# Altium schematic symbol library Schlib_Spectrum_Analyzer.SchLib: 19 symbols
Pins are listed as number, name and electrical type; pins without a type are passive.

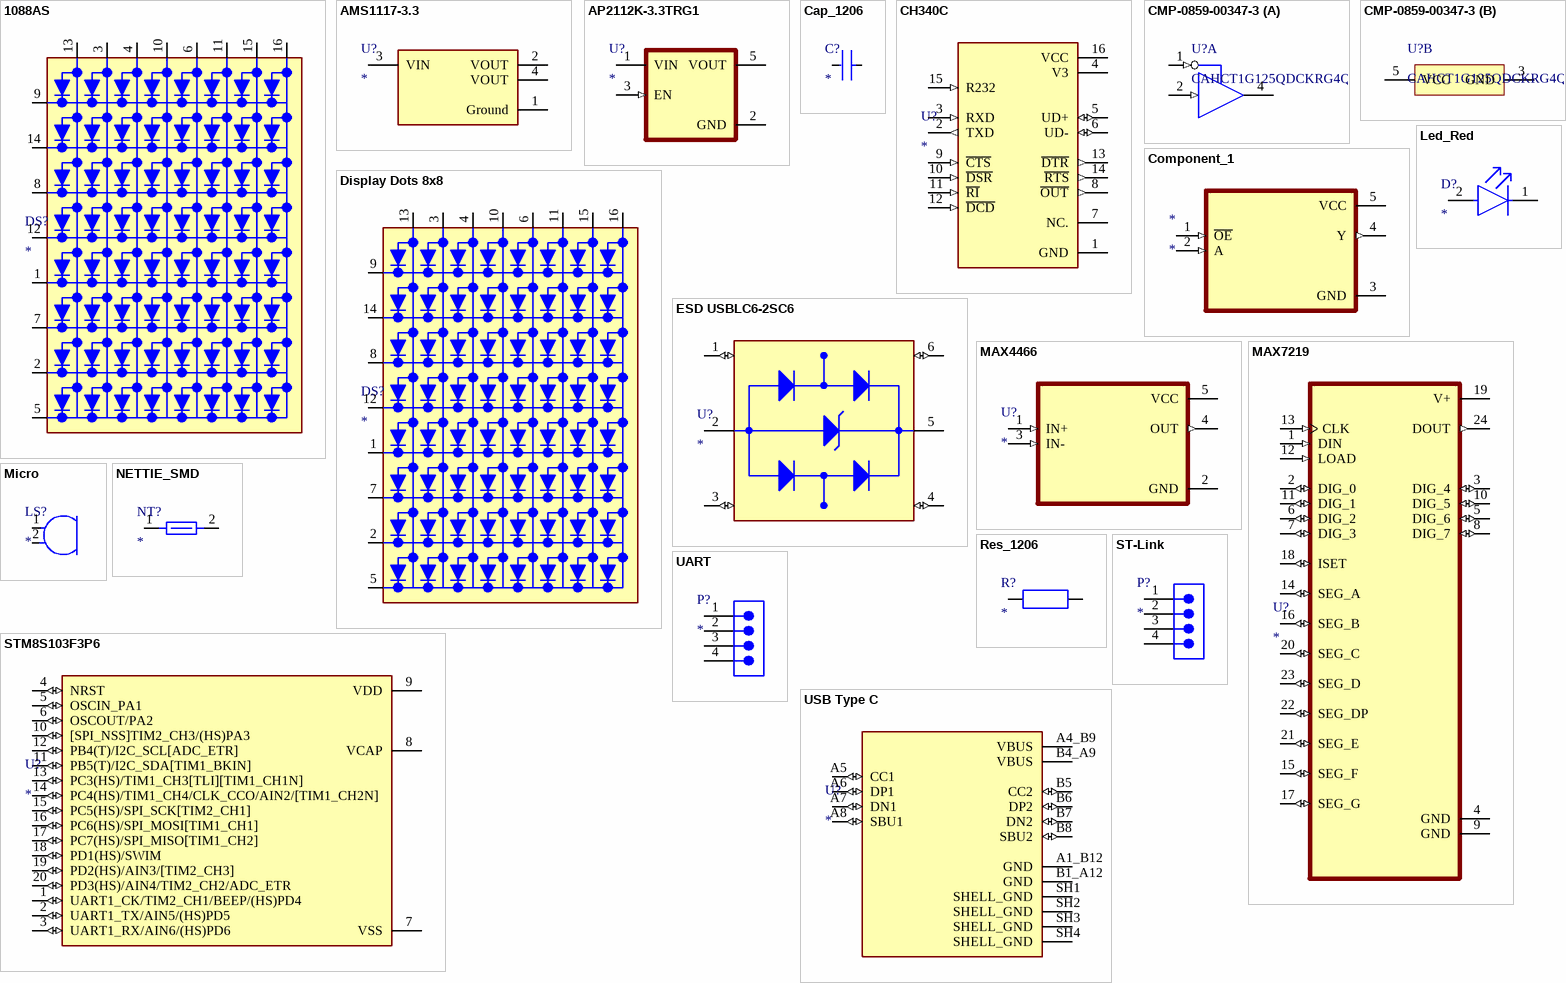
[diagram p0: symbols 1088AS to USB Type C]

## 1088AS
designator DS?
footprint LED_MATRIX_8x8_1088AS
pins: 1 CATHODE_ROW_5, 2 CATHODE_ROW_7, 3 ANODE_COLUMN_2, 4 ANODE_COLUMN_3, 5 CATHODE_ROW_8, 6 ANODE_COLUMN_5, 7 CATHODE_ROW_6, 8 CATHODE_ROW_3, 9 CATHODE_ROW_1, 10 ANODE_COLUMN_4, 11 ANODE_COLUMN_6, 12 CATHODE_ROW_4, 13 ANODE_COLUMN_1, 14 CATHODE_ROW_2, 15 ANODE_COLUMN_7, 16 ANODE_COLUMN_8

## AMS1117-3.3
designator U?
footprint AMS1117-3.3
pins: 1 Ground (power), 2 VOUT, 3 VIN (power), 4 VOUT

## AP2112K-3.3TRG1
designator U?
footprint AP2112K-3.3TRG1
pins: 1 VIN (power), 2 GND (power), 3 EN (in), 5 VOUT (power)

## Cap_1206
designator C?
Value: *
footprint Cap_1206
pins: 1, 2

## CH340C
designator U?
footprint CH340C
pins: 1 GND (power), 2 TXD (out), 3 RXD (in), 4 V3 (power), 5 UD+ (io), 6 UD- (io), 7 NC., 8 ~{OUT} (out), 9 ~{CTS} (in), 10 ~{DSR} (in), 11 ~{RI} (in), 12 ~{DCD} (in), 13 ~{DTR} (out), 14 ~{RTS} (out), 15 R232 (in), 16 VCC (power)

## CMP-0859-00347-3
designator U?, comment CAHCT1G125QDCKRG4Q
Generic Part Number: SN74AHCT1G125-Q1; Manufacturer: Texas Instruments; F @ Nom Voltage(Max)(Mhz): 75; ICC @ Nom Voltage(Max)(mA): 0.01; Output Drive (IOL/IOH)(Max)(mA): 8/-8; Rating: Automotive; Logic: True; Voltage(Nom)(V): 5; tpd @ Nom Voltage(Max)(ns): 6; VCC(Min)(V): 3; Technology Family: AHCT; 3-State Output: Yes; Bits(#): 1; Sub-Family: Non-Inverting Buffer/Driver; Input Type: CMOS; Schmitt Trigger: No; VCC(Max)(V): 5.5; PackageReference: DCK0005A; DatasheetVersion: SCLS504B; Operating Temperature Range(C): -40 to 125; Output Type: CMOS
footprint DCK0005A_N (SOT23, 5-Leads, Body 2.15x1.4mm, Pitch 0.65mm, IPC Medium Density)
footprint DCK0005A_L (SOT23, 5-Leads, Body 2.15x1.4mm, Pitch 0.65mm, IPC High Density)
footprint DCK0005A_M (SOT23, 5-Leads, Body 2.15x1.4mm, Pitch 0.65mm, IPC Low Density)
footprint DCK0005A_M (SOT23, 5-Leads, Body 2.15x1.4mm, Pitch 0.65mm, IPC Low Density)
footprint DCK0005A_M (SOT23, 5-Leads, Body 2.15x1.4mm, Pitch 0.65mm, IPC Low Density)
part A pins: 1 ~{OE} (in), 2 A (in), 4 Y (hiz)
part B pins: 3 GND (power), 5 VCC (power)

## Component_1
designator *
pins: 1 ~{OE} (in), 2 A (in), 3 GND (power), 4 Y (out), 5 VCC (power)

## Display Dots 8x8
designator DS?
footprint Display Dots 8x8
pins: 1 CATHODE_ROW_5, 2 CATHODE_ROW_7, 3 ANODE_COLUMN_2, 4 ANODE_COLUMN_3, 5 CATHODE_ROW_8, 6 ANODE_COLUMN_5, 7 CATHODE_ROW_6, 8 CATHODE_ROW_3, 9 CATHODE_ROW_1, 10 ANODE_COLUMN_4, 11 ANODE_COLUMN_6, 12 CATHODE_ROW_4, 13 ANODE_COLUMN_1, 14 CATHODE_ROW_2, 15 ANODE_COLUMN_7, 16 ANODE_COLUMN_8

## ESD USBLC6-2SC6
designator U?
footprint ESD USBLC6-2SC6
pins: 1 I/O1_IN (io), 2 GND (power), 3 I/O2_IN (io), 4 I/O2_OUT (io), 5 VBUS (power), 6 I/O1_OUT (io)

## Led_Red
designator D?
footprint Led_Red
pins: 1 C, 2 A

## MAX4466
designator U?
footprint MAX4466
pins: 1 IN+ (in), 2 GND (power), 3 IN- (in), 4 OUT (out), 5 VCC (power)

## MAX7219
designator U?
footprint MAX7219
pins: 1 DIN (in), 2 DIG_0 (io), 3 DIG_4 (io), 4 GND (power), 5 DIG_6 (io), 6 DIG_2 (io), 7 DIG_3 (io), 8 DIG_7 (io), 9 GND (power), 10 DIG_5 (io), 11 DIG_1 (io), 12 LOAD (in), 13 CLK (in), 14 SEG_A (io), 15 SEG_F (io), 16 SEG_B (io), 17 SEG_G (io), 18 ISET (io), 19 V+ (power), 20 SEG_C (io), 21 SEG_E (io), 22 SEG_DP (io), 23 SEG_D (io), 24 DOUT (out)

## Micro
designator LS?
footprint Micro
pins: 1 A, 2 C

## NETTIE_SMD
designator NT?  (net tie, no BOM)
footprint NETTIE_SMD
pins: 1, 2

## Res_1206
designator R?
Value: *
footprint Res_1206 (Chip Resistor, 2-Leads, Body 3,20x1,60mm, IPC Low Density)
pins: 1, 2

## ST-Link
designator P?
footprint ST-Link
pins: 1, 2, 3, 4

## STM8S103F3P6
designator U?
footprint STM8S103F3P6
pins: 1 UART1_CK/TIM2_CH1/BEEP/(HS)PD4 (io), 2 UART1_TX/AIN5/(HS)PD5 (io), 3 UART1_RX/AIN6/(HS)PD6 (io), 4 NRST (io), 5 OSCIN_PA1 (io), 6 OSCOUT/PA2 (io), 7 VSS (power), 8 VCAP, 9 VDD (power), 10 [SPI_NSS]TIM2_CH3/(HS)PA3 (io), 11 PB5(T)/I2C_SDA[TIM1_BKIN] (io), 12 PB4(T)/I2C_SCL[ADC_ETR] (io), 13 PC3(HS)/TIM1_CH3[TLI][TIM1_CH1N] (io), 14 PC4(HS)/TIM1_CH4/CLK_CCO/AIN2/[TIM1_CH2N] (io), 15 PC5(HS)/SPI_SCK[TIM2_CH1] (io), 16 PC6(HS)/SPI_MOSI[TIM1_CH1] (io), 17 PC7(HS)/SPI_MISO[TIM1_CH2] (io), 18 PD1(HS)/SWIM (io), 19 PD2(HS)/AIN3/[TIM2_CH3] (io), 20 PD3(HS)/AIN4/TIM2_CH2/ADC_ETR (io)

## UART
designator P?
footprint UART
pins: 1, 2, 3, 4

## USB Type C
designator U?
footprint USB Type C
pins: A1_B12 GND (power), A4_B9 VBUS (power), A5 CC1 (io), A6 DP1 (io), A7 DN1 (io), A8 SBU1 (io), B1_A12 GND (power), B4_A9 VBUS (power), B5 CC2 (io), B6 DP2 (io), B7 DN2 (io), B8 SBU2 (io), SH1 SHELL_GND (power), SH2 SHELL_GND (power), SH3 SHELL_GND (power), SH4 SHELL_GND (power)